# EAGLE library part NANOPI_DUO (library NANOPI-DUO2)
2.54/5.08 mm, Straight solder tail, Mating pin 0.76 mm, positions Source: Datasheet <https://componentsearchengine.com/Datasheets/1/801-87-016-10-001101.pdf>
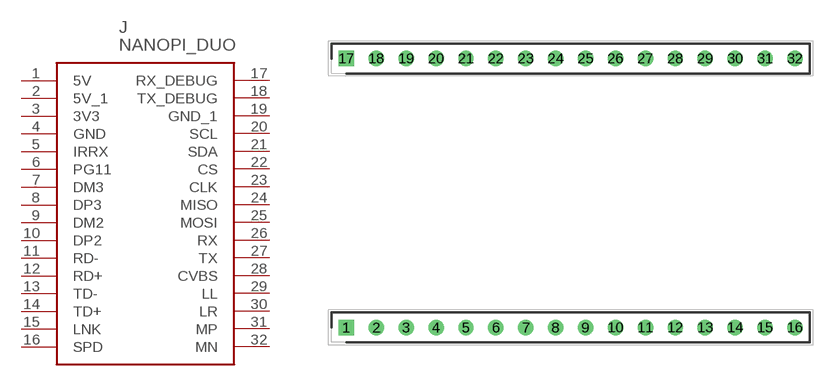
[diagram p0: symbol with the pads of NANOPI_DUO2; footprint NANOPI_DUO2]

Designator prefix J

## NANOPI_DUO (DESCRIPTION: 2.54/5.08 mm, Straight solder tail, Mating pin 0.76 mm, positions; HEIGHT: 7mm; MANUFACTURER_NAME: Preci-Dip; MANUFACTURER_PART_NUMBER: 801-87-016-10-001101; MOUSER_PART_NUMBER: 437-8018701610001101; MOUSER_PRICE-STOCK: https://www.mouser.co.uk/ProductDetail/Preci-dip/801-87-016-10-001101?qs=FtMuP6KVi2R63mSGr0n9%2FQ%3D%3D)  [NANOPI_DUO2]
1  5V
2  5V_1
3  3V3
4  GND
5  IRRX
6  PG11
7  DM3
8  DP3
9  DM2
10  DP2
11  RD-
12  RD+
13  TD-
14  TD+
15  LNK
16  SPD
17  RX_DEBUG
18  TX_DEBUG
19  GND_1
20  SCL
21  SDA
22  CS
23  CLK
24  MISO
25  MOSI
26  RX
27  TX
28  CVBS
29  LL
30  LR
31  MP
32  MN

## Footprint NANOPI_DUO2 (pad centres in mm)
801-87-016-10-001101
drill 0.8 pad 1.2 square: 1 0,0; 17 0,22.86
drill 0.8 pad 1.2: 2 2.54,0; 3 5.08,0; 4 7.62,0; 5 10.16,0; 6 12.7,0; 7 15.24,0; 8 17.78,0; 9 20.32,0; 10 22.86,0; 11 25.4,0; 12 27.94,0; 13 30.48,0; 14 33.02,0; 15 35.56,0; 16 38.1,0; 18 2.54,22.86; 19 5.08,22.86; 20 7.62,22.86; 21 10.16,22.86; 22 12.7,22.86; 23 15.24,22.86; 24 17.78,22.86; 25 20.32,22.86; 26 22.86,22.86; 27 25.4,22.86; 28 27.94,22.86; 29 30.48,22.86; 30 33.02,22.86; 31 35.56,22.86; 32 38.1,22.86